# EAGLE library part ACF2101P (library burr-brown)
Low Noise, Dual Switched Integrator
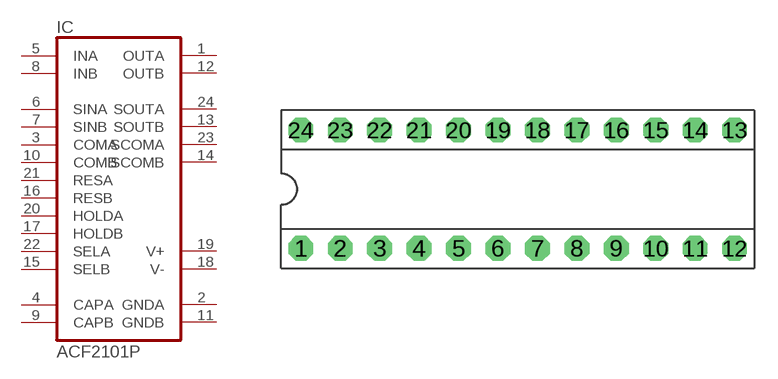
[diagram p222: symbol with the pads of DIP-24/3; footprint DIP-24/3]

Designator prefix IC

## ACF2101P  [DIP-24/3]
1  OUTA  out
2  GNDA  pwr
3  COMA  in
4  CAPA  pas
5  INA  in
6  SINA  in
7  SINB  in
8  INB  in
9  CAPB  pas
10  COMB  in
11  GNDB  pwr
12  OUTB  out
13  SOUTB  out
14  SCOMB  out
15  SELB  in
16  RESB  in
17  HOLDB  in
18  V-  pwr
19  V+  pwr
20  HOLDA  in
21  RESA  in
22  SELA  in
23  SCOMA  out
24  SOUTA  out

## Footprint DIP-24/3 (pad centres in mm)
drill 0.813 pad 1.6 octagon: 1 -13.97,-3.81; 2 -11.43,-3.81; 3 -8.89,-3.81; 4 -6.35,-3.81; 5 -3.81,-3.81; 6 -1.27,-3.81; 7 1.27,-3.81; 8 3.81,-3.81; 9 6.35,-3.81; 10 8.89,-3.81; 11 11.43,-3.81; 12 13.97,-3.81; 13 13.97,3.81; 14 11.43,3.81; 15 8.89,3.81; 16 6.35,3.81; 17 3.81,3.81; 18 1.27,3.81; 19 -1.27,3.81; 20 -3.81,3.81; 21 -6.35,3.81; 22 -8.89,3.81; 23 -11.43,3.81; 24 -13.97,3.81